# EAGLE library part ATTINY45-20SU (library ICs)
8-bit Microcontroller with 4 Bytes In-System Programmable Flash
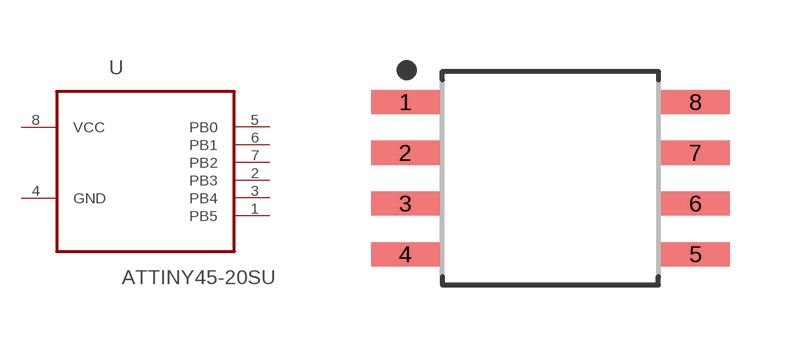
[diagram p16: symbol with the pads of SOIC127P798X216-8N; footprint SOIC127P798X216-8N]

Designator prefix U

## ATTINY45-20SU (DESCRIPTION: ATtiny Series 20 MHz 4 KB Flash 256 B SRAM 8-Bit Microcontroller - SOIC-8; DIGI-KEY_PART_NUMBER: ATTINY45-20SU-ND; DIGI-KEY_PURCHASE_URL: https://www.digikey.com/product-detail/en/microchip-technology/ATTINY45-20SU/ATTINY45-20SU-ND/735466?utm_source=snapeda&utm_medium=aggregator&utm_campaign=symbol; MF: Microchip; MP: ATTINY45-20SU; PACKAGE: SOIC-8 Microchip)  [SOIC127P798X216-8N]
1  PB5
2  PB3
3  PB4
4  GND  pas
5  PB0
6  PB1
7  PB2
8  VCC  pwr

## Footprint SOIC127P798X216-8N (pad centres in mm)
8-SOIC, 1.27 mm pitch, 7.98 mm span, 5.24 X 5.29 X 2.16 mm body 8-pin SOIC package with 1.27 mm pitch, 7.98 mm span with body size 5.24 X 5.29 X 2.16 mm
smd 1.714 x 0.602: 1 -3.628,1.905; 2 -3.628,0.635; 3 -3.628,-0.635; 4 -3.628,-1.905; 5 3.628,-1.905; 6 3.628,-0.635; 7 3.628,0.635; 8 3.628,1.905